# Altium schematic symbol library R-CRCW06033K30JNEA.Schlib: 1 symbol
Pins are listed as number, name and electrical type; pins without a type are passive.

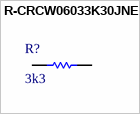
[diagram p0: symbol R-CRCW06033K30JNEA]

## R-CRCW06033K30JNEA
designator R?, comment 3k3
Thick Film Resistors - SMD 1/10watt 3.3Kohms 5%
pins: 1, 2